# Altium integrated library MP1482DS-LF-Z.IntLib: 1 symbol
Pins are listed as number, name and electrical type; pins without a type are passive.

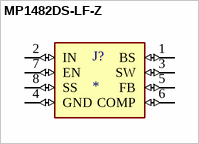
[diagram p0: symbol MP1482DS-LF-Z]

## MP1482DS-LF-Z
designator J?
Buck Switching Regulator IC Positive Adjustable 0.923V 1 Output 2A 8-SOIC (0.154, 3.90mm Width); MF: Monolithic Power; MP: MP1482DS-LF-Z; Package: SOIC-8 Monolithic Power Systems; Price: None; Check_prices: https://www.snapeda.com/parts/MP1482DS-LF-Z/Monolithic+Power+Systems+Inc./view-part/?ref=eda; Value: *; SnapEDA_Link: https://www.snapeda.com/parts/MP1482DS-LF-Z/Monolithic+Power+Systems+Inc./view-part/?ref=snap; Availability: In Stock; Purchase-URL: https://pricing.snapeda.com/search?q=MP1482DS-LF-Z&ref=eda
footprint SOIC8
pins: 1 BS (io), 2 IN (io), 3 SW (io), 4 GND (io), 5 FB (io), 6 COMP (io), 7 EN (io), 8 SS (io)